# EAGLE library part MPU6500 (library MPU-6500)
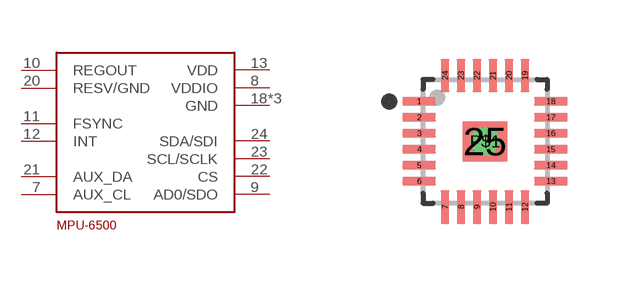
[diagram p0: symbol with the pads of QFN40P300X300X105-24N; footprint QFN40P300X300X105-24N]

Designator prefix -

## MPU6500  [QFN40P300X300X105-24N]
7  AUX_CL
8  VDDIO
9  AD0/SDO
10  REGOUT
11  FSYNC
12  INT
13  VDD
18  GND
20  RESV/GND
21  AUX_DA
22  CS
23  SCL/SCLK
24  SDA/SDI
25  GND
P$1  GND

## Footprint QFN40P300X300X105-24N (pad centres in mm)
smd 0.84 x 0.22: 1 -1.645,1; 2 -1.645,0.6; 3 -1.645,0.2; 4 -1.645,-0.2; 5 -1.645,-0.6; 6 -1.645,-1; 13 1.645,-1; 14 1.645,-0.6; 15 1.645,-0.2; 16 1.645,0.2; 17 1.645,0.6; 18 1.645,1
smd 0.22 x 0.84: 7 -1,-1.645; 8 -0.6,-1.645; 9 -0.2,-1.645; 10 0.2,-1.645; 11 0.6,-1.645; 12 1,-1.645; 19 1,1.645; 20 0.6,1.645; 21 0.2,1.645; 22 -0.2,1.645; 23 -0.6,1.645; 24 -1,1.645
smd 1.104 x 1: 25 0,0
drill 0.2: P$1 0,0